# Altium footprint library Transistors.PcbLib: 1 footprints
Each footprint in its own frame and in the unit in brackets; x right, y up, seen from the top. Pads: shape width x height; smd on the part's side, far side on the other; paste and mask are expansions set on the pad; w line width, h text height; cw(c..) or ccw(c..) is an arc to the next point about the centre after c.
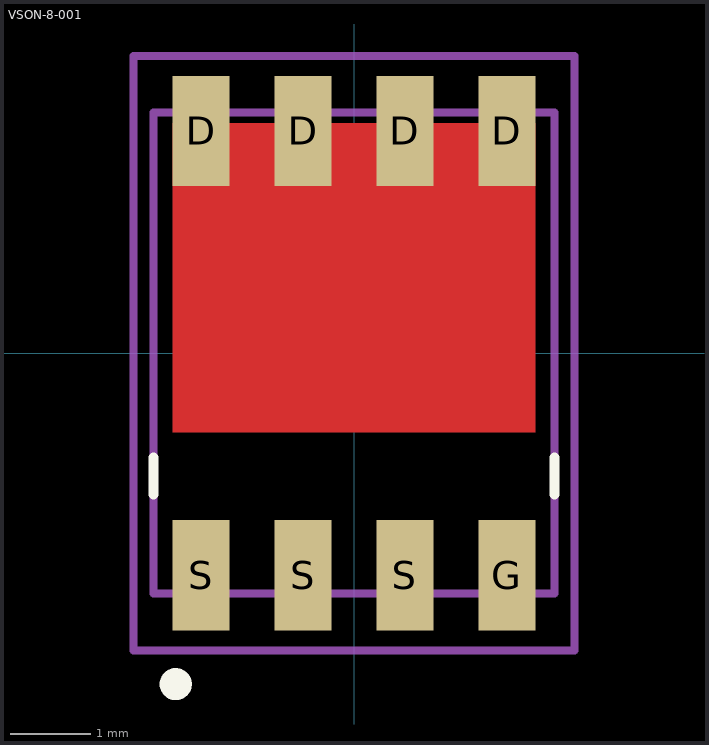
[diagram p0: the footprint, top view; thin cyan lines are the x and y axes]

## VSON-8-001 [mm] "VSON 5mm x 6mm 8 pins"
pads (8):
  rect 0.71x1.372 smd paste-2539.97: D(-1.905,2.77) D(-0.635,2.77) D(0.635,2.77) D(1.905,2.77)
  rect 0.71x1.372 smd paste-2539.97 mask+0.102: G(1.905,-2.77) S(-1.905,-2.77) S(-0.635,-2.77) S(0.635,-2.77)
Top Layer:
  region: 2.26,2.866 2.26,-0.984 -2.26,-0.984 -2.26,2.866
Top Overlay:
  circle w0.2: c-2.222,-4.127 r0.1
  lines w0.127: -2.5,-1.764 -2.5,-1.304 ; 2.5,-1.764 2.5,-1.304
Top Paste:
  region: -1.196,0.597 -1.196,-0.697 -1.942,-0.697 -1.942,0.597
  region: -0.15,0.597 -0.15,-0.697 -0.896,-0.697 -0.896,0.597
  region: 0.896,0.597 0.896,-0.697 0.15,-0.697 0.15,0.597
  region: 1.942,0.597 1.942,-0.697 1.196,-0.697 1.196,0.597
  region: 1.942,2.241 1.942,0.947 1.196,0.947 1.196,2.241
  region: -1.196,2.241 -1.196,0.947 -1.942,0.947 -1.942,2.241
  region: 0.896,2.241 0.896,0.947 0.15,0.947 0.15,2.241
  region: -0.15,2.241 -0.15,0.947 -0.896,0.947 -0.896,2.241
  region: 2.159,3.293 2.159,2.527 1.651,2.527 1.651,3.293
  region: 0.889,3.293 0.889,2.527 0.381,2.527 0.381,3.293
  region: -0.381,3.293 -0.381,2.527 -0.889,2.527 -0.889,3.293
  region: -1.651,3.293 -1.651,2.527 -2.159,2.527 -2.159,3.293
  region: 2.186,-2.221 2.186,-3.293 1.624,-3.293 1.624,-2.221
  region: 0.916,-2.221 0.916,-3.293 0.354,-3.293 0.354,-2.221
  region: -0.354,-2.221 -0.354,-3.293 -0.916,-3.293 -0.916,-2.221
  region: -1.624,-2.221 -1.624,-3.293 -2.186,-3.293 -2.186,-2.221
Top Solder:
  region: -1.45,3.556 -1.45,2.966 -1.09,2.966 -1.09,3.556 -0.18,3.556 -0.18,2.966 0.18,2.966 0.18,3.556 1.09,3.556 1.09,2.966 1.45,2.966 1.45,3.566 2.36,3.566 2.36,-1.084 -2.36,-1.084 -2.36,3.556
Top Assembly:
  lines w0.1: -2.5,-3 -2.5,3 2.5,3 2.5,-3 -2.5,-3
Top Courtyard:
  lines w0.1: -2.75,-3.706 -2.75,3.706 2.75,3.706 2.75,-3.706 -2.75,-3.706
Top Designator:
  text ".Designator" at -3.999,-0.267 h0.8
3D body "CSD18540Q5B.STEP": height 1.05, standoff 0, extent -2.5,-3 2.5,3